# EAGLE library part TPS562200DDCR (library divchrono)
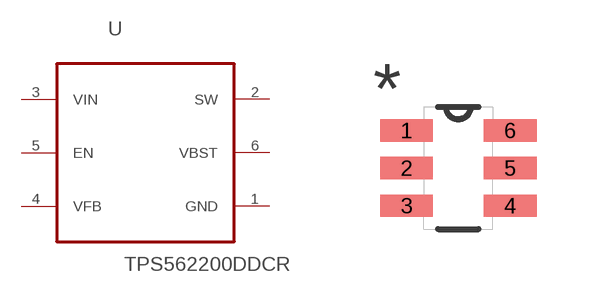
[diagram p1: symbol with the pads of SOT95P280X110-6N; footprint SOT95P280X110-6N]

Designator prefix -

## TPS562200DDCR  [SOT95P280X110-6N]
1  GND  pas
2  SW  in
3  VIN  pwr
4  VFB  in
5  EN  in
6  VBST  out

## Footprint SOT95P280X110-6N (pad centres in mm)
smd 1.321 x 0.559: 1 -1.295,0.94; 2 -1.295,0; 3 -1.295,-0.94; 4 1.295,-0.94; 5 1.295,0; 6 1.295,0.94